# Altium schematic symbol library SnapEDAsch.SchLib: 1 symbol
Pins are listed as number, name and electrical type; pins without a type are passive.

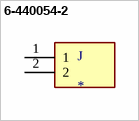
[diagram p0: symbol 6-440054-2]

## 6-440054-2
designator J
Connector Header Through Hole 2 position 0.079 _2.00mm_; MF: TE Connectivity; MP: 6-440054-2; TE_purchase_URL: https://www.te.com/usa-en/product-6-440054-2.html?te_bu=Cor&te_type=disp&te_campaign=seda_glo_cor-seda-global-disp-prtnr-fy19-seda-model-bom-cta_sma-317_1&elqCampaignId=32493; EU_RoHS_Compliance: Compliant; Package: None; Value: *; Availability: Unavailable; SnapEDA_Link: https://www.snapeda.com/parts/6-440054-2/TE%20Connectivity%20AMP%20Connectors/view-part/2390138/?ref=snap; Price: None
footprint TE_6-440054-2
pins: 1, 2